# Altium footprint library 691 701 510 0xx B.PcbLib: 11 footprints
Each footprint in its own frame and in the unit in brackets; x right, y up, seen from the top. Pads: shape width x height; smd on the part's side, far side on the other; paste and mask are expansions set on the pad; w line width, h text height; cw(c..) or ccw(c..) is an arc to the next point about the centre after c.
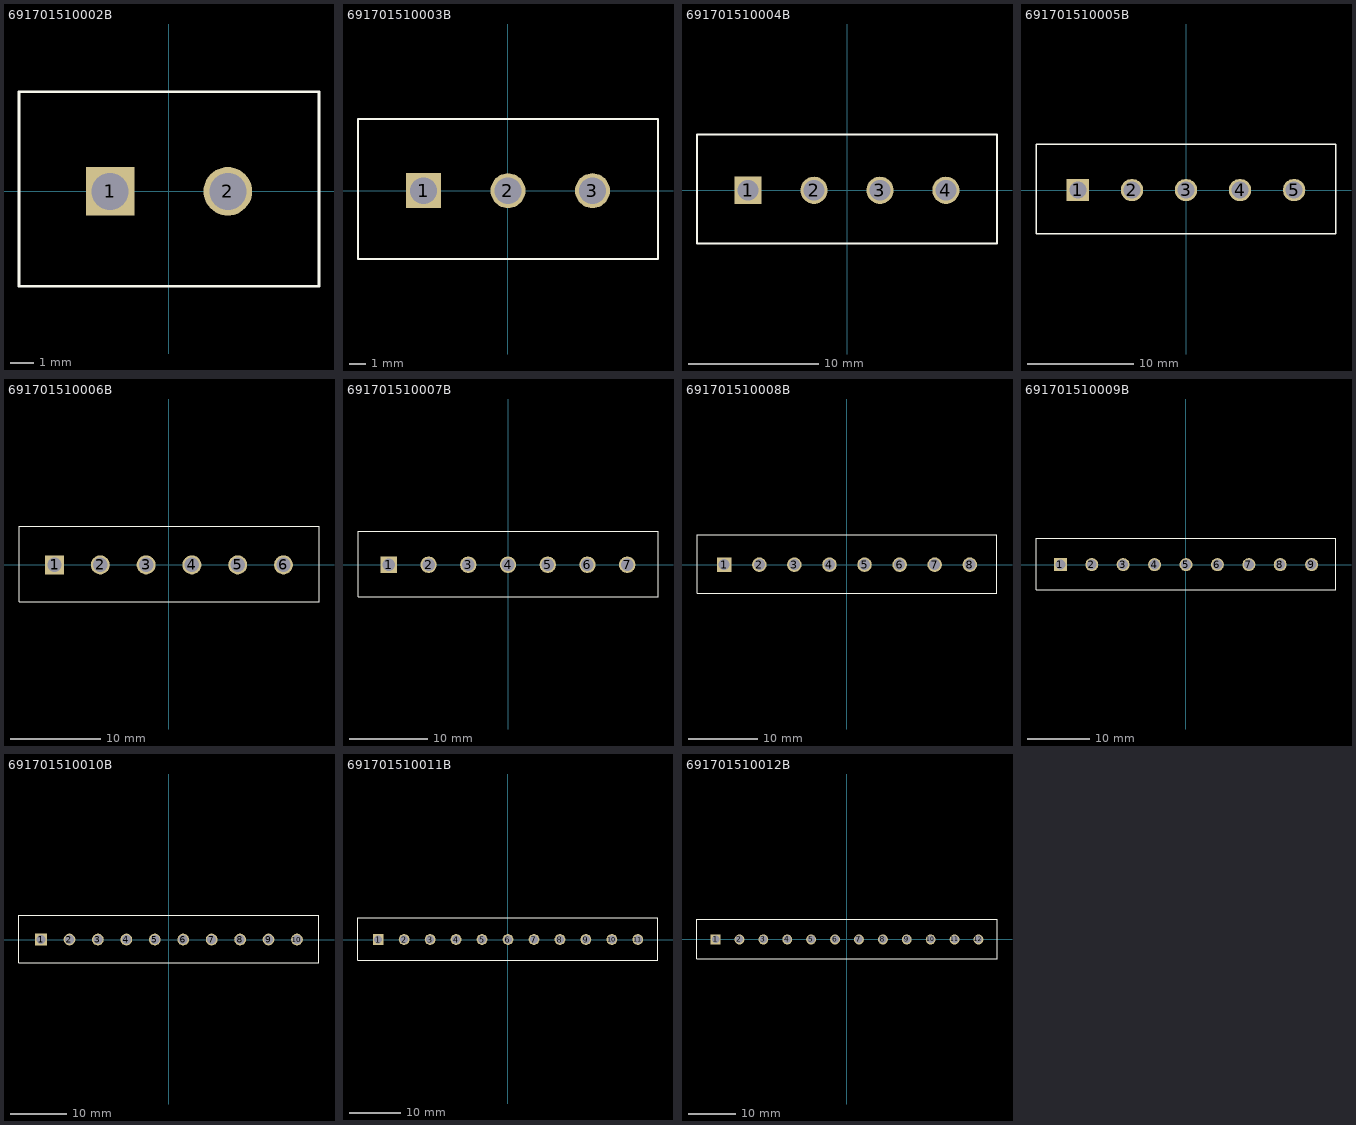
[diagram p0: the footprints below, top view; thin cyan lines are the x and y axes]

## 691701510002B [mm] "THR - 5,08mm - PCB Vertical Close - 02p"
height 12
pads (2):
  rect 2.1x2.1 hole 1.6: 1(-2.54,0)
  round 2.1 hole 1.6: 2(2.54,0)
Top Overlay:
  lines w0.127: -6.48,-4.1 -6.48,4.3 ; -6.48,-4.1 6.48,-4.1 ; -6.48,-4.1 6.48,-4.1 ; -6.48,-4.1 -6.48,4.3 ; -6.48,4.3 6.48,4.3 ; -6.48,4.3 6.48,4.3 ; 6.48,-4.1 6.48,4.3 ; 6.48,-4.1 6.48,4.3
3D body: height 12.2, standoff -2.4, extent -6.48,-4 6.48,4.5

## 691701510003B [mm] "THR - 5,08mm - PCB Vertical Close - 03p"
height 12
pads (3):
  rect 2.1x2.1 hole 1.6: 1(-5.08,0)
  round 2.1 hole 1.6: 2(0,0) 3(5.08,0)
Top Overlay:
  lines w0.127: -9.02,-4.1 -9.02,4.3 ; -9.02,-4.1 9.02,-4.1 ; -9.02,-4.1 9.02,-4.1 ; -9.02,-4.1 -9.02,4.3 ; -9.02,4.3 9.02,4.3 ; -9.02,4.3 9.02,4.3 ; 9.02,-4.1 9.02,4.3 ; 9.02,-4.1 9.02,4.3
3D body: height 12.1, standoff -2.5, extent -9.02,-3.9 9.02,4.6

## 691701510004B [mm] "THR - 5,08mm - PCB Vertical Close - 04p"
height 12
pads (4):
  rect 2.1x2.1 hole 1.6: 1(-7.62,0)
  round 2.1 hole 1.6: 2(-2.54,0) 3(2.54,0) 4(7.62,0)
Top Overlay:
  lines w0.127: -11.56,-4.1 -11.56,4.3 ; -11.56,-4.1 11.56,-4.1 ; -11.56,-4.1 11.56,-4.1 ; -11.56,-4.1 -11.56,4.3 ; -11.56,4.3 11.56,4.3 ; -11.56,4.3 11.56,4.3 ; 11.56,-4.1 11.56,4.3 ; 11.56,-4.1 11.56,4.3
3D body: height 12.1, standoff -2.5, extent -11.56,-3.9 11.56,4.6

## 691701510005B [mm] "THR - 5,08mm - PCB Vertical Close - 05p"
height 12
pads (5):
  rect 2.1x2.1 hole 1.6: 1(-10.16,0)
  round 2.1 hole 1.6: 2(-5.08,0) 3(0,0) 4(5.08,0) 5(10.16,0)
Top Overlay:
  lines w0.127: -14.1,-4.1 -14.1,4.3 ; -14.1,-4.1 14.1,-4.1 ; -14.1,-4.1 14.1,-4.1 ; -14.1,-4.1 -14.1,4.3 ; -14.1,4.3 14.1,4.3 ; -14.1,4.3 14.1,4.3 ; 14.1,-4.1 14.1,4.3 ; 14.1,-4.1 14.1,4.3
3D body: height 12.1, standoff -2.5, extent -14.1,-4 14.1,4.5

## 691701510006B [mm] "THR - 5,08mm - PCB Vertical Close - 06p"
height 12
pads (6):
  rect 2.1x2.1 hole 1.6: 1(-12.7,0)
  round 2.1 hole 1.6: 2(-7.62,0) 3(-2.54,0) 4(2.54,0) 5(7.62,0) 6(12.7,0)
Top Overlay:
  lines w0.127: -16.64,-4.1 -16.64,4.3 ; -16.64,-4.1 16.64,-4.1 ; -16.64,-4.1 16.64,-4.1 ; -16.64,-4.1 -16.64,4.3 ; -16.64,4.3 16.64,4.3 ; -16.64,4.3 16.64,4.3 ; 16.64,-4.1 16.64,4.3 ; 16.64,-4.1 16.64,4.3
3D body: height 12.1, standoff -2.5, extent -16.64,-3.9 16.64,4.6

## 691701510007B [mm] "THR - 5,08mm - PCB Vertical Close - 07p"
height 12
pads (7):
  rect 2.1x2.1 hole 1.6: 1(-15.24,0)
  round 2.1 hole 1.6: 2(-10.16,0) 3(-5.08,0) 4(0,0) 5(5.08,0) 6(10.16,0) 7(15.24,0)
Top Overlay:
  lines w0.127: -19.18,-4.1 -19.18,4.3 ; -19.18,-4.1 19.18,-4.1 ; -19.18,-4.1 19.18,-4.1 ; -19.18,-4.1 -19.18,4.3 ; -19.18,4.3 19.18,4.3 ; -19.18,4.3 19.18,4.3 ; 19.18,-4.1 19.18,4.3 ; 19.18,-4.1 19.18,4.3
3D body: height 12.1, standoff -2.5, extent -19.18,-3.8 19.18,4.7

## 691701510008B [mm] "THR - 5,08mm - PCB Vertical Close - 08p"
height 12
pads (8):
  rect 2.1x2.1 hole 1.6: 1(-17.78,0)
  round 2.1 hole 1.6: 2(-12.7,0) 3(-7.62,0) 4(-2.54,0) 5(2.54,0) 6(7.62,0) 7(12.7,0) 8(17.78,0)
Top Overlay:
  lines w0.127: -21.72,-4.1 -21.72,4.3 ; -21.72,-4.1 21.72,-4.1 ; -21.72,-4.1 21.72,-4.1 ; -21.72,-4.1 -21.72,4.3 ; -21.72,4.3 21.72,4.3 ; -21.72,4.3 21.72,4.3 ; 21.72,-4.1 21.72,4.3 ; 21.72,-4.1 21.72,4.3
3D body: height 12.1, standoff -2.5, extent -21.72,-3.9 21.72,4.6

## 691701510009B [mm] "THR - 5,08mm - PCB Vertical Close - 09p"
height 12
pads (9):
  rect 2.1x2.1 hole 1.6: 1(-20.32,0)
  round 2.1 hole 1.6: 2(-15.24,0) 3(-10.16,0) 4(-5.08,0) 5(0,0) 6(5.08,0) 7(10.16,0) 8(15.24,0) 9(20.32,0)
Top Overlay:
  lines w0.127: -24.26,-4.1 -24.26,4.3 ; -24.26,-4.1 24.26,-4.1 ; -24.26,-4.1 24.26,-4.1 ; -24.26,-4.1 -24.26,4.3 ; -24.26,4.3 24.26,4.3 ; -24.26,4.3 24.26,4.3 ; 24.26,-4.1 24.26,4.3 ; 24.26,-4.1 24.26,4.3
3D body: height 12.1, standoff -2.5, extent -24.36,-3.9 24.16,4.6

## 691701510010B [mm] "THR - 5,08mm - PCB Vertical Close - 10p"
height 12
pads (10):
  rect 2.1x2.1 hole 1.6: 1(-22.86,0)
  round 2.1 hole 1.6: 2(-17.78,0) 3(-12.7,0) 4(-7.62,0) 5(-2.54,0) 6(2.54,0) 7(7.62,0) 8(12.7,0) 9(17.78,0) 10(22.86,0)
Top Overlay:
  lines w0.127: -26.8,-4.1 -26.8,4.3 ; -26.8,-4.1 26.8,-4.1 ; -26.8,-4.1 26.8,-4.1 ; -26.8,-4.1 -26.8,4.3 ; -26.8,4.3 26.8,4.3 ; -26.8,4.3 26.8,4.3 ; 26.8,-4.1 26.8,4.3 ; 26.8,-4.1 26.8,4.3
3D body: height 12.1, standoff -2.5, extent -26.8,-3.9 26.8,4.6

## 691701510011B [mm] "THR - 5,08mm - PCB Vertical Close - 11p"
height 12
pads (11):
  rect 2.1x2.1 hole 1.6: 1(-25.4,0)
  round 2.1 hole 1.6: 2(-20.32,0) 3(-15.24,0) 4(-10.16,0) 5(-5.08,0) 6(0,0) 7(5.08,0) 8(10.16,0) 9(15.24,0) 10(20.32,0) 11(25.4,0)
Top Overlay:
  lines w0.127: -29.34,-4.1 -29.34,4.3 ; -29.34,-4.1 29.34,-4.1 ; -29.34,-4.1 29.34,-4.1 ; -29.34,-4.1 -29.34,4.3 ; -29.34,4.3 29.34,4.3 ; -29.34,4.3 29.34,4.3 ; 29.34,-4.1 29.34,4.3 ; 29.34,-4.1 29.34,4.3
3D body: height 12.1, standoff -2.5, extent -29.38,-3.85 29.3,4.65

## 691701510012B [mm] "THR - 5,08mm - PCB Vertical Close - 12p"
height 12
pads (12):
  rect 2.1x2.1 hole 1.6: 1(-27.94,0)
  round 2.1 hole 1.6: 2(-22.86,0) 3(-17.78,0) 4(-12.7,0) 5(-7.62,0) 6(-2.54,0) 7(2.54,0) 8(7.62,0) 9(12.7,0) 10(17.78,0) 11(22.86,0) 12(27.94,0)
Top Overlay:
  lines w0.127: -31.88,-4.1 -31.88,4.3 ; -31.88,-4.1 31.88,-4.1 ; -31.88,-4.1 31.88,-4.1 ; -31.88,-4.1 -31.88,4.3 ; -31.88,4.3 31.88,4.3 ; -31.88,4.3 31.88,4.3 ; 31.88,-4.1 31.88,4.3 ; 31.88,-4.1 31.88,4.3
3D body: height 12.1, standoff -2.5, extent -31.88,-3.9 31.88,4.6